# Altium integrated library Ceramic Capacitors 0805 50V.IntLib: 1 symbol
Pins are listed as number, name and electrical type; pins without a type are passive.

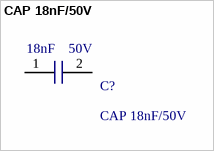
[diagram p0: symbol CAP 18nF/50V]

## CAP 18nF/50V
designator C?  Voltage: 50V  Capacitance: 18nF
0.018µF ±10% 50V Ceramic Capacitor X7R 0805 (2012 Metric); Manufacturer 1: Samsung Electro-Mechanics; Manufacturer 1 PN: CL21B183KBANFNC; ComponentLink1Description: Specifications; ComponentLink1URL: http://www.samsungsem.com/kr/support/product-search/mlcc/__icsFiles/afieldfile/2018/07/23/CL21B183KBANFNC.pdf; Digikey PN: 1276-2467-1-ND; Mouser PN: 581-08055A180J4T2A
footprint CAP 18nF/50V (0.018µF ±10% 50V Ceramic Capacitor X7R 0805 (2012 Metric))
pins: 1, 2